# Altium schematic symbol library Digital_MCU_STM32_F4_GOST.SchLib: 1 symbol
Pins are listed as number, name and electrical type; pins without a type are passive.

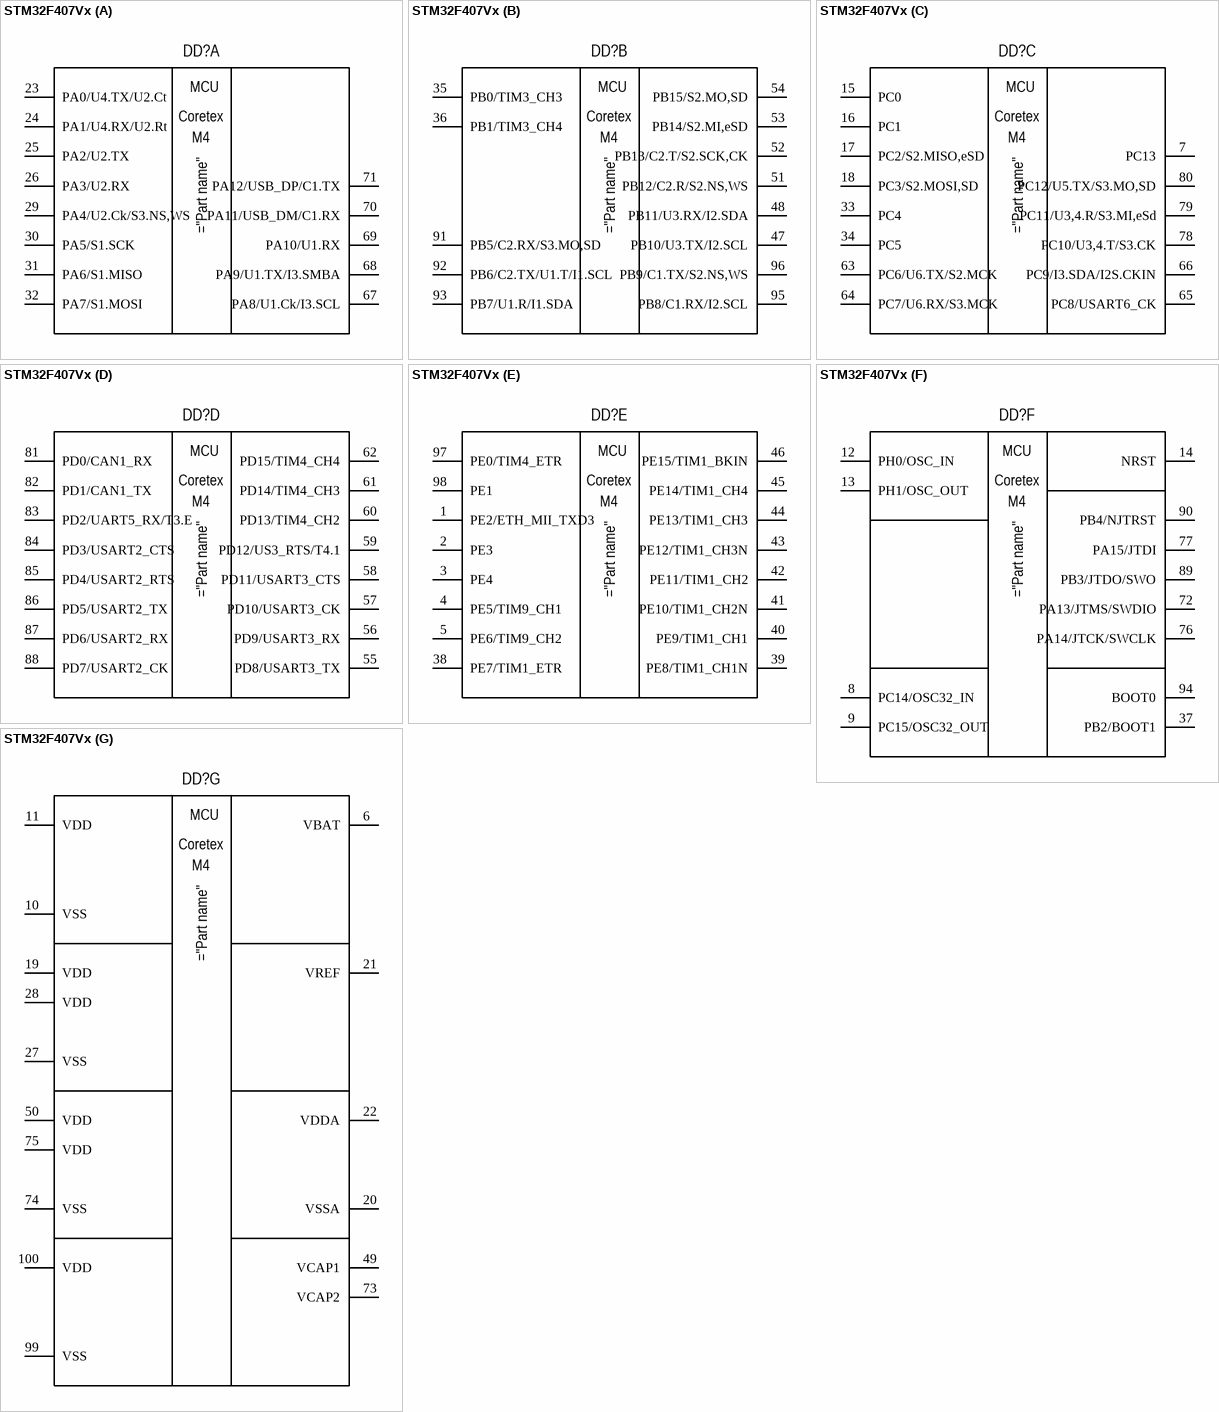
[diagram p0: symbol STM32F407Vx]

## STM32F407Vx
designator DD?
part A pins: 23 PA0/U4.TX/U2.Ct, 24 PA1/U4.RX/U2.Rt, 25 PA2/U2.TX, 26 PA3/U2.RX, 29 PA4/U2.Ck/S3.NS,WS, 30 PA5/S1.SCK, 31 PA6/S1.MISO, 32 PA7/S1.MOSI, 67 PA8/U1.Ck/I3.SCL, 68 PA9/U1.TX/I3.SMBA, 69 PA10/U1.RX, 70 PA11/USB_DM/C1.RX, 71 PA12/USB_DP/C1.TX
part B pins: 35 PB0/TIM3_CH3, 36 PB1/TIM3_CH4, 47 PB10/U3.TX/I2.SCL, 48 PB11/U3.RX/I2.SDA, 51 PB12/C2.R/S2.NS,WS, 52 PB13/C2.T/S2.SCK,CK, 53 PB14/S2.MI,eSD, 54 PB15/S2.MO,SD, 91 PB5/C2.RX/S3.MO,SD, 92 PB6/C2.TX/U1.T/I1.SCL, 93 PB7/U1.R/I1.SDA, 95 PB8/C1.RX/I2.SCL, 96 PB9/C1.TX/S2.NS,WS
part C pins: 7 PC13, 15 PC0, 16 PC1, 17 PC2/S2.MISO,eSD, 18 PC3/S2.MOSI,SD, 33 PC4, 34 PC5, 63 PC6/U6.TX/S2.MCK, 64 PC7/U6.RX/S3.MCK, 65 PC8/USART6_CK, 66 PC9/I3.SDA/I2S.CKIN, 78 PC10/U3,4.T/S3.CK, 79 PC11/U3,4.R/S3.MI,eSd, 80 PC12/U5.TX/S3.MO,SD
part D pins: 55 PD8/USART3_TX, 56 PD9/USART3_RX, 57 PD10/USART3_CK, 58 PD11/USART3_CTS, 59 PD12/US3_RTS/T4.1, 60 PD13/TIM4_CH2, 61 PD14/TIM4_CH3, 62 PD15/TIM4_CH4, 81 PD0/CAN1_RX, 82 PD1/CAN1_TX, 83 PD2/UART5_RX/T3.E, 84 PD3/USART2_CTS, 85 PD4/USART2_RTS, 86 PD5/USART2_TX, 87 PD6/USART2_RX, 88 PD7/USART2_CK
part E pins: 1 PE2/ETH_MII_TXD3, 2 PE3, 3 PE4, 4 PE5/TIM9_CH1, 5 PE6/TIM9_CH2, 38 PE7/TIM1_ETR, 39 PE8/TIM1_CH1N, 40 PE9/TIM1_CH1, 41 PE10/TIM1_CH2N, 42 PE11/TIM1_CH2, 43 PE12/TIM1_CH3N, 44 PE13/TIM1_CH3, 45 PE14/TIM1_CH4, 46 PE15/TIM1_BKIN, 97 PE0/TIM4_ETR, 98 PE1
part F pins: 8 PC14/OSC32_IN, 9 PC15/OSC32_OUT, 12 PH0/OSC_IN, 13 PH1/OSC_OUT, 14 NRST, 37 PB2/BOOT1, 72 PA13/JTMS/SWDIO, 76 PA14/JTCK/SWCLK, 77 PA15/JTDI, 89 PB3/JTDO/SWO, 90 PB4/NJTRST, 94 BOOT0
part G pins: 6 VBAT, 10 VSS, 11 VDD, 19 VDD, 20 VSSA, 21 VREF, 22 VDDA, 27 VSS, 28 VDD, 49 VCAP1, 50 VDD, 73 VCAP2, 74 VSS, 75 VDD, 99 VSS, 100 VDD
part A text: MCU; Coretex; M4
part B text: MCU; Coretex; M4
part C text: MCU; Coretex; M4
part D text: MCU; Coretex; M4
part E text: MCU; Coretex; M4
part F text: MCU; Coretex; M4
part G text: MCU; Coretex; M4